# Altium footprint library MC_2LAYER_INDICATOR.PcbLib: 1 footprints
Each footprint in its own frame and in the unit in brackets; x right, y up, seen from the top. Pads: shape width x height; smd on the part's side, far side on the other; paste and mask are expansions set on the pad; w line width, h text height; cw(c..) or ccw(c..) is an arc to the next point about the centre after c.
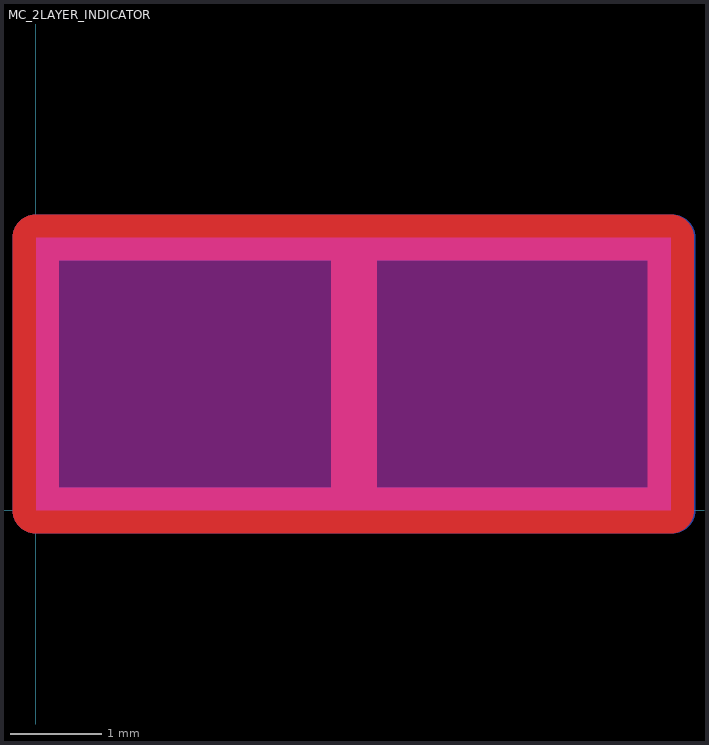
[diagram p0: the footprint, top view; thin cyan lines are the x and y axes]

## MC_2LAYER_INDICATOR [mm] "2 layer indicator"
Top Layer:
  lines w0.508: 3.5,0 3.5,3 ; 0,0 0,3 6.985,3 6.985,0 0,0
  text "1" at 1.5,0.5 h2
Bottom Layer:
  lines w0.508: 6.985,0 0,0 ; 6.985,3 0,3 ; 7,0 7,3 ; 0,0 0,3 ; 0,0 0,3
  text "2" at 4.5,0.5 h2
Keep-Out Layer:
  rectangle: 0,0 6.985,3